# Altium footprint library LDL212PUR.PcbLib: 1 footprints
Each footprint in its own frame and in the unit in brackets; x right, y up, seen from the top. Pads: shape width x height; smd on the part's side, far side on the other; paste and mask are expansions set on the pad; w line width, h text height; cw(c..) or ccw(c..) is an arc to the next point about the centre after c.
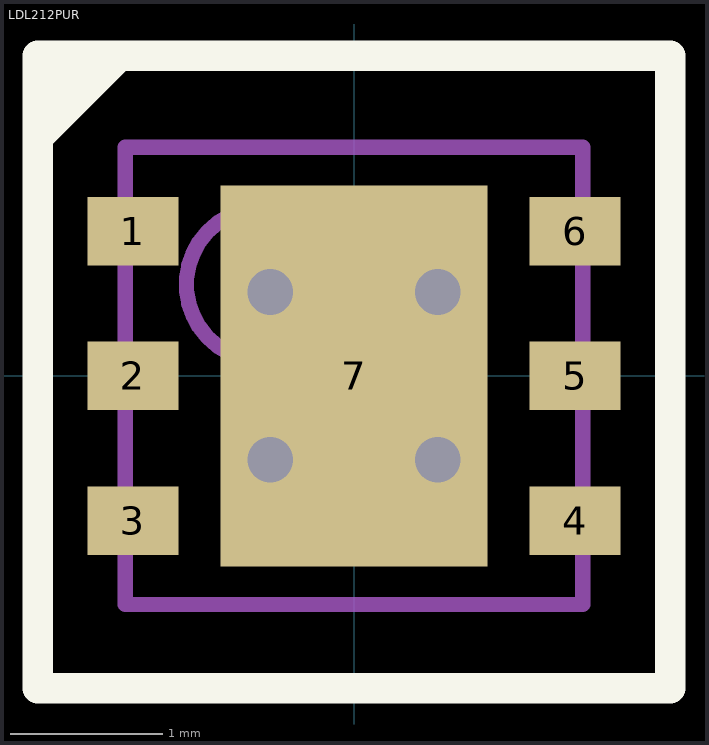
[diagram p0: the footprint, top view; thin cyan lines are the x and y axes]

## LDL212PUR [mm]
height 0.8
pads (7):
  rect 0.6x0.45 smd: 1(-1.45,0.95) 2(-1.45,0) 3(-1.45,-0.95) 4(1.45,-0.95) 5(1.45,0) 6(1.45,0.95)
  rect 1.75x2.5 smd: 7(0,0)
via -0.55,0.55 diameter 0.6 hole 0.3
via 0.55,0.55 diameter 0.6 hole 0.3
via -0.55,-0.55 diameter 0.6 hole 0.3
via 0.55,-0.55 diameter 0.6 hole 0.3
Top Overlay:
  region: -2.05,1.45 -1.4,2.1 -2.075,2.1
  lines w0.2: -2.075,-2.05 2.075,-2.05 2.075,2.1 -2.075,2.1 -2.075,-2.05
Mechanical 13:
  circle w0.1: c-0.6,0.6 r0.5
  lines w0.1: -1.5,-1.5 -1.5,1.5 1.5,1.5 1.5,-1.5 -1.5,-1.5
Mechanical 15:
  lines w0.05: -2.075,-2.075 -2.075,2.075 2.075,2.075 2.075,-2.075 -2.075,-2.075
  lines w0.1: -0.5,0 0.5,0 ; 0,-0.5 0,0.5
3D body: height 0.8, standoff 0.01, extent -1.5,-1.5 1.5,1.5